# Altium footprint library SQ-1.PcbLib: 34 footprints (part 3 of 3)
Each footprint in its own frame and in the unit in brackets; x right, y up, seen from the top. Pads: shape width x height; smd on the part's side, far side on the other; paste and mask are expansions set on the pad; w line width, h text height; cw(c..) or ccw(c..) is an arc to the next point about the centre after c.
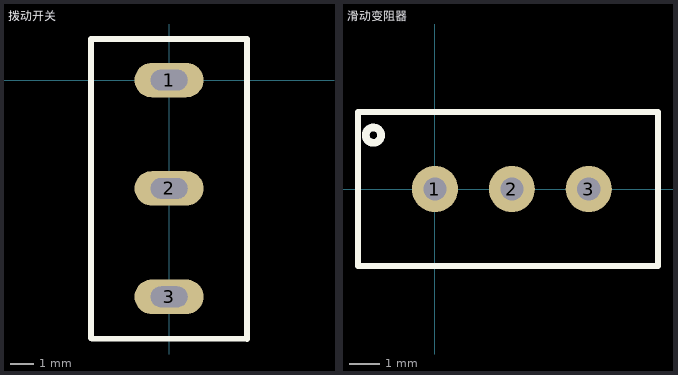
[diagram p2: the footprints below, top view; thin cyan lines are the x and y axes]

## 拨动开关 [mm]
pads (3):
  oval 3x1.5 hole 0.9 slot 1.6 at 0 deg: 1(0,0) 2(0,-4.7) 3(0,-9.4)
Top Overlay:
  lines w0.254: -3.38,-11.19 -3.35,-11.22 3.36,-11.22 3.37,-11.23 3.37,1.71 3.37,1.78 -3.38,1.78 -3.38,-11.19

## 滑动变阻器 [mil]
pads (3):
  round 60 hole 30: 1(0,0) 2(100,0) 3(200,0)
Top Overlay:
  circle w10: c-80,70 r10
  lines w8: -100,-100 -100,100 290,100 290,-100 -100,-100